# Altium footprint library SOT108-1.PcbLib: 1 footprints
Each footprint in its own frame and in the unit in brackets; x right, y up, seen from the top. Pads: shape width x height; smd on the part's side, far side on the other; paste and mask are expansions set on the pad; w line width, h text height; cw(c..) or ccw(c..) is an arc to the next point about the centre after c.
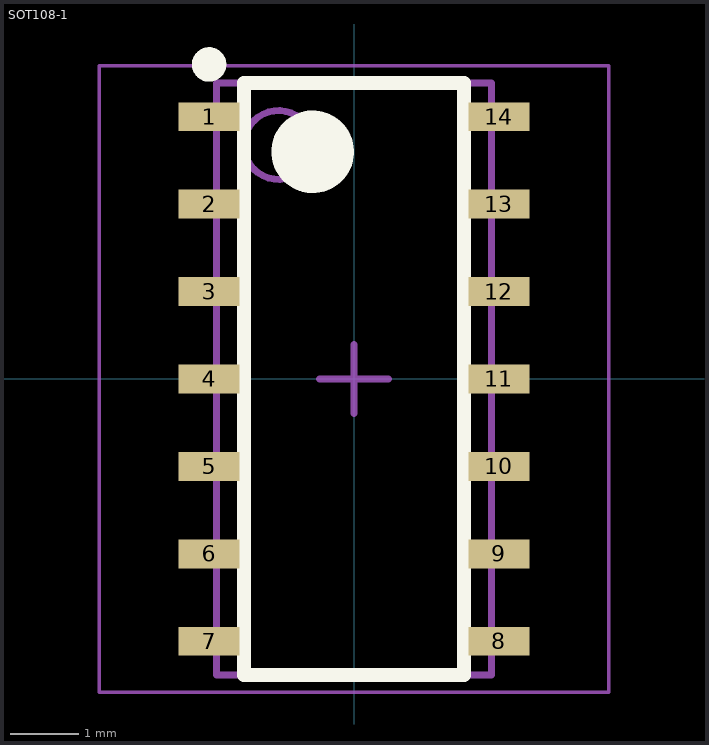
[diagram p0: the footprint, top view; thin cyan lines are the x and y axes]

## SOT108-1 [mil] "SOP, 14-Leads, Body 8.65x3.90mm, Pitch 1.27mm, IPC Medium Density, 74HC21"
height 68.9
pads (14):
  rect 35x16.54 smd: 1(-82.89,150) 2(-82.89,100) 3(-82.89,50) 4(-82.89,0) 5(-82.89,-50) 6(-82.89,-100) 7(-82.89,-150) 8(82.89,-150) 9(82.89,-100) 10(82.89,-50) 11(82.89,0) 12(82.89,50) 13(82.89,100) 14(82.89,150)
Top Overlay:
  circle w23.62: c-23.62,129.92 r11.81
  circle w9.84: c-82.89,179.92 r4.92
  lines w7.87: -62.99,-169.29 62.99,-169.29 62.99,169.29 -62.99,169.29 -62.99,-169.29
Mechanical 13:
  circle w3.94: c-43.31,133.86 r19.68
  lines w3.94: -78.74,-169.29 78.74,-169.29 78.74,169.29 -78.74,169.29 -78.74,-169.29
Mechanical 15:
  lines w1.97: -145.67,-179.13 145.67,-179.13 145.67,179.13 -145.67,179.13 -145.67,-179.13
  lines w3.94: -19.68,0 19.68,0 ; 0,-19.68 0,19.68
3D body: height 68.9, standoff 9.84, extent -78.74,-169.29 78.74,169.29